# Altium schematic symbol library Receiver_Schlib.SchLib: 1 symbol
Pins are listed as number, name and electrical type; pins without a type are passive.

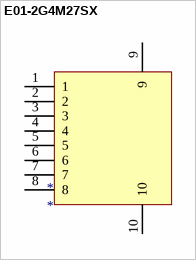
[diagram p0: symbol E01-2G4M27SX]

## E01-2G4M27SX
designator *
footprint E01-2G4M27SX (23*14mm-S)
pins: 1, 2, 3, 4, 5, 6, 7, 8, 9, 10